# Altium footprint library STM32_F4VX_M.PcbLib: 17 footprints (part 1 of 2)
Each footprint in its own frame and in the unit in brackets; x right, y up, seen from the top. Pads: shape width x height; smd on the part's side, far side on the other; paste and mask are expansions set on the pad; w line width, h text height; cw(c..) or ccw(c..) is an arc to the next point about the centre after c.
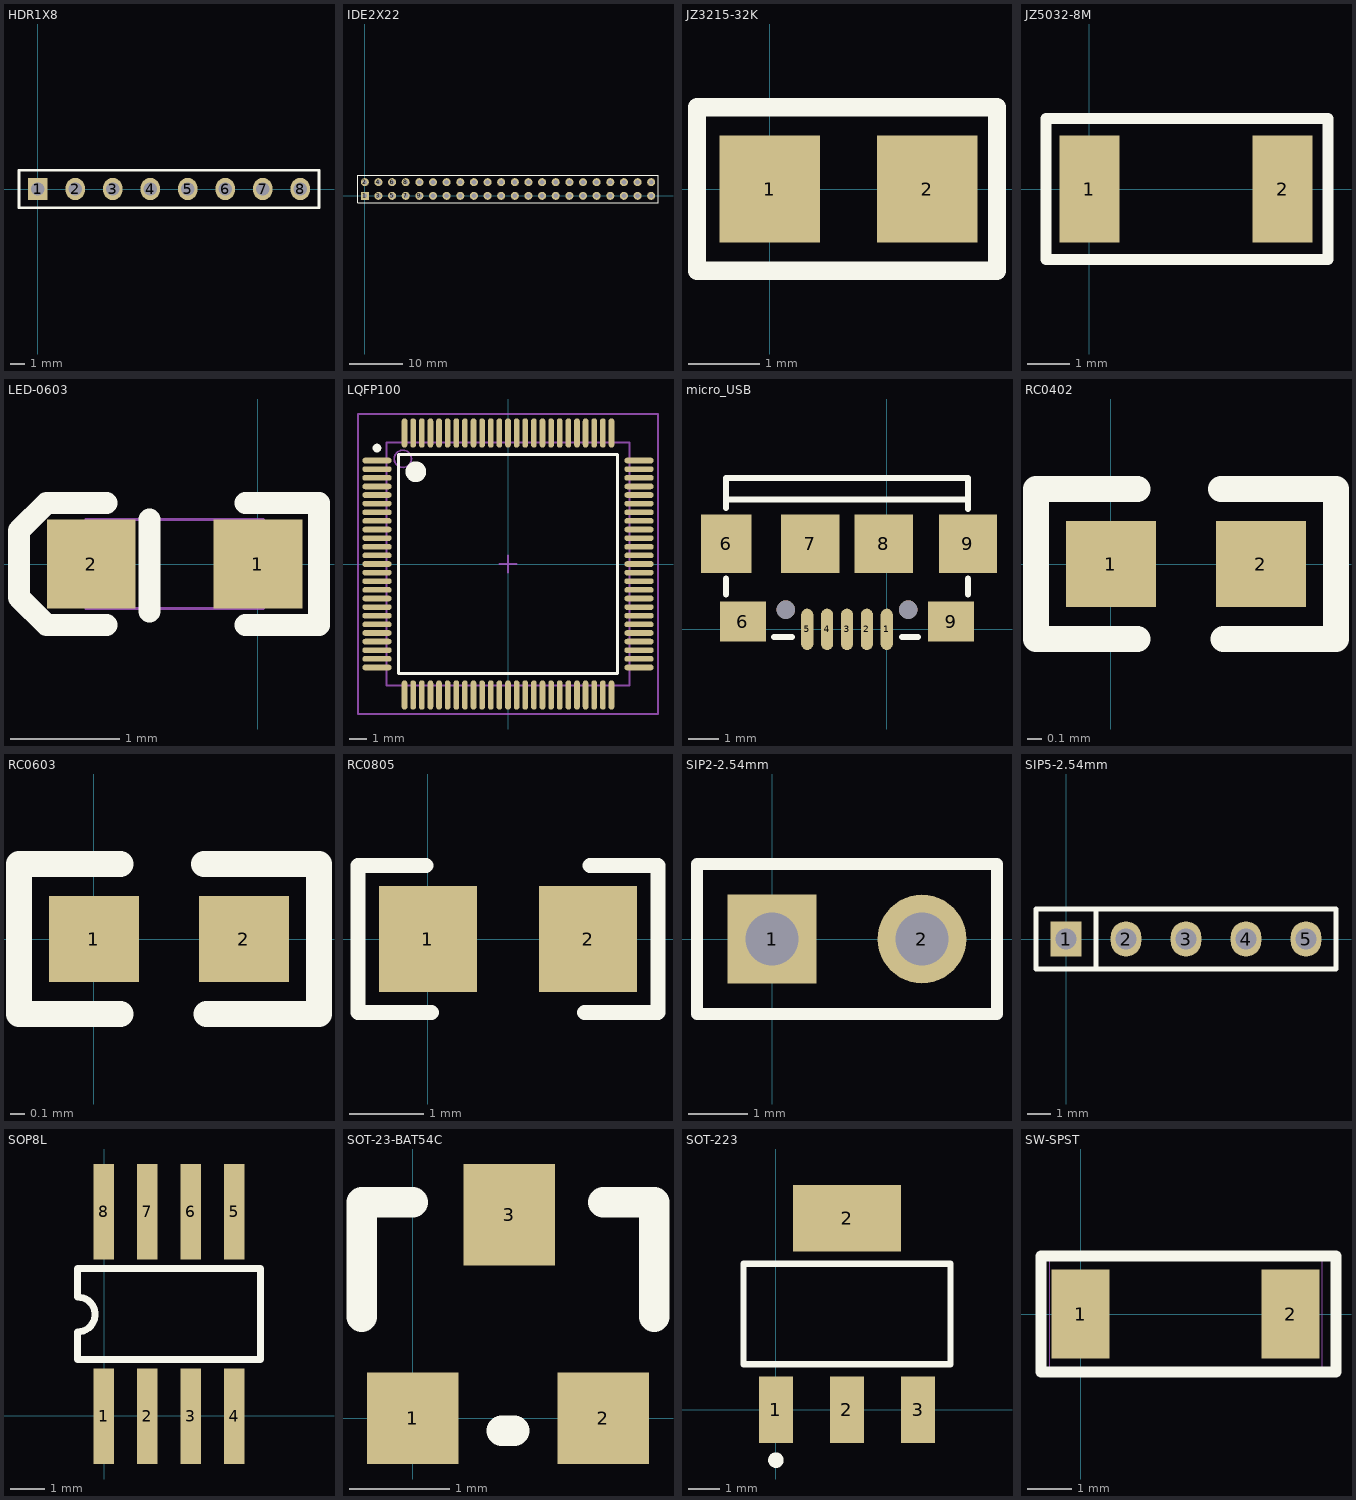
[diagram p0: the footprints below, top view; thin cyan lines are the x and y axes]

## HDR1X8 [mm] "Connector; Header; 8 Position"
pads (8):
  rect 1.3x1.5 hole 0.9: 1(0,0)
  oval 1.3x1.5 hole 0.9: 2(2.54,0) 3(5.08,0) 4(7.62,0) 5(10.16,0) 6(12.7,0) 7(15.24,0) 8(17.78,0)
Top Overlay:
  lines w0.2: -1.27,-1.27 19.05,-1.27 19.05,1.27 -1.27,1.27 -1.27,-1.27

## IDE2X22 [mm]
pads (44):
  rect 1.5x1.5 hole 0.9: 1(0,0)
  round 1.5 hole 0.9: 2(0,2.54) 3(2.54,0) 4(2.54,2.54) 5(5.08,0) 6(5.08,2.54) 7(7.62,0) 8(7.62,2.54) 9(10.16,0) 10(10.16,2.54) 11(12.7,0) 12(12.7,2.54) 13(15.24,0) 14(15.24,2.54) 15(17.78,0) 16(17.78,2.54) 17(20.32,0) 18(20.32,2.54) 19(22.86,0) 20(22.86,2.54) 21(25.4,0) 22(25.4,2.54) 23(27.94,0) 24(27.94,2.54) 25(30.48,0) 26(30.48,2.54) 27(33.02,0) 28(33.02,2.54) 29(35.56,0) 30(35.56,2.54) 31(38.1,0) 32(38.1,2.54) 33(40.64,0) 34(40.64,2.54) 35(43.18,0) 36(43.18,2.54) 37(45.72,0) 38(45.72,2.54) 39(48.26,0) 40(48.26,2.54) 41(50.8,0) 42(50.8,2.54) 43(53.34,0) 44(53.34,2.54)
Top Overlay:
  lines w0.2: -1.27,-1.27 -1.27,3.81 54.61,3.81 54.61,-1.27 -1.27,-1.27

## JZ3215-32K [mm]
pads (2):
  rect 1.4x1.5 smd paste-0.06 mask+0.05: 1(0,0) 2(2.2,0)
Top Overlay:
  lines w0.254: -1.016,-1.143 3.175,-1.143 3.175,1.143 -1.016,1.143 -1.016,-1.143

## JZ5032-8M [mm]
pads (2):
  rect 1.4x2.5 smd: 1(0,0) 2(4.521,0)
Top Overlay:
  lines w0.254: -1.016,-1.651 5.588,-1.651 5.588,1.651 -1.016,1.651 -1.016,-1.651

## LED-0603 [mil]
pads (2):
  rect 32x32 smd paste+0 mask+0: 1(0,0) 2(-60,0)
Top Overlay:
  lines w8: -54.5,-22 -76,-22 -86,-12 -86,12 -76,22 -54.5,22 ; -39,-17 -39,16 ; -4.5,-22 22,-22 22,22 -4.5,22
Mechanical 1:
  lines w1: -39,-16 -39,16 ; -54,-16 -6,-16 -6,16 -54,16 -54,-16
Mechanical 2:
  lines w1: -62,-16 2,-16 2,16 -62,16 -62,-16

## LQFP100 [mm] "LQFP, 100-Leads, Body 16.2x16.2mm (max), Pitch 0.50mm, IPC Medium Density"
height 1.6
pads (100):
  oval 1.7x0.33 smd: 1(-7.6,6) 2(-7.6,5.5) 3(-7.6,5) 4(-7.6,4.5) 5(-7.6,4) 6(-7.6,3.5) 7(-7.6,3) 8(-7.6,2.5) 9(-7.6,2) 10(-7.6,1.5) 11(-7.6,1) 12(-7.6,0.5) 13(-7.6,0) 14(-7.6,-0.5) 15(-7.6,-1) 16(-7.6,-1.5) 17(-7.6,-2) 18(-7.6,-2.5) 19(-7.6,-3) 20(-7.6,-3.5) 21(-7.6,-4) 22(-7.6,-4.5) 23(-7.6,-5) 24(-7.6,-5.5) 25(-7.6,-6) 51(7.6,-6) 52(7.6,-5.5) 53(7.6,-5) 54(7.6,-4.5) 55(7.6,-4) 56(7.6,-3.5) 57(7.6,-3) 58(7.6,-2.5) 59(7.6,-2) 60(7.6,-1.5) 61(7.6,-1) 62(7.6,-0.5) 63(7.6,0) 64(7.6,0.5) 65(7.6,1) 66(7.6,1.5) 67(7.6,2) 68(7.6,2.5) 69(7.6,3) 70(7.6,3.5) 71(7.6,4) 72(7.6,4.5) 73(7.6,5) 74(7.6,5.5) 75(7.6,6)
  oval 0.33x1.7 smd: 26(-6,-7.6) 27(-5.5,-7.6) 28(-5,-7.6) 29(-4.5,-7.6) 30(-4,-7.6) 31(-3.5,-7.6) 32(-3,-7.6) 33(-2.5,-7.6) 34(-2,-7.6) 35(-1.5,-7.6) 36(-1,-7.6) 37(-0.5,-7.6) 38(0,-7.6) 39(0.5,-7.6) 40(1,-7.6) 41(1.5,-7.6) 42(2,-7.6) 43(2.5,-7.6) 44(3,-7.6) 45(3.5,-7.6) 46(4,-7.6) 47(4.5,-7.6) 48(5,-7.6) 49(5.5,-7.6) 50(6,-7.6) 76(6,7.6) 77(5.5,7.6) 78(5,7.6) 79(4.5,7.6) 80(4,7.6) 81(3.5,7.6) 82(3,7.6) 83(2.5,7.6) 84(2,7.6) 85(1.5,7.6) 86(1,7.6) 87(0.5,7.6) 88(0,7.6) 89(-0.5,7.6) 90(-1,7.6) 91(-1.5,7.6) 92(-2,7.6) 93(-2.5,7.6) 94(-3,7.6) 95(-3.5,7.6) 96(-4,7.6) 97(-4.5,7.6) 98(-5,7.6) 99(-5.5,7.6) 100(-6,7.6)
Top Overlay:
  circle w0.6: c-5.35,5.35 r0.3
  circle w0.25: c-7.6,6.725 r0.125
  lines w0.2: -6.35,-6.35 6.35,-6.35 6.35,6.35 -6.35,6.35 -6.35,-6.35
Mechanical 13:
  circle w0.1: c-6.1,6.1 r0.5
  lines w0.1: -7.05,-7.05 7.05,-7.05 7.05,7.05 -7.05,7.05 -7.05,-7.05
Mechanical 15:
  lines w0.1: -0.5,0 0.5,0 ; 0,-0.5 0,0.5 ; -8.7,-8.7 8.7,-8.7 8.7,8.7 -8.7,8.7 -8.7,-8.7
3D body: height 1.6, standoff 0.05, extent -7.05,-7.05 7.05,7.05

## micro_USB [mm]
pads (13):
  oval 0.4x1.35 smd: 1(0,0) 2(-0.65,0) 3(-1.3,0) 4(-1.95,0) 5(-2.6,0)
  rect 1.651x1.9 smd: 6(-5.25,2.794)
  rect 1.5x1.3 smd: 6(-4.699,0.254) 9(2.099,0.254)
  rect 1.9x1.9 smd: 7(-2.5,2.794) 8(-0.1,2.794) 9(2.65,2.794)
  round 0.6 hole 0.6: ""(-3.3,0.644) ""(0.7,0.644)
Top Overlay:
  lines w0.2: -5.25,1.143 -5.25,1.651 ; -5.25,3.963 -5.25,4.944 2.65,4.944 2.65,3.937 ; -5.197,4.244 2.65,4.244 ; -3.683,-0.254 -3.091,-0.254 ; 0.491,-0.254 1.016,-0.254 ; 2.65,1.143 2.65,1.651

## RC0402 [mil]
pads (2):
  rect 24x23 smd paste+0 mask+6: 1(0,0) 2(40,0)
Top Overlay:
  lines w7: 7,-20 -20,-20 -20,20 7,20 ; 29.41,20 60,20 60,-20 30,-20

## RC0603 [mil]
pads (2):
  rect 24x23 smd paste+0 mask+6: 1(0,0) 2(40,0)
Top Overlay:
  lines w7: 7,-20 -20,-20 -20,20 7,20 ; 29.41,20 60,20 60,-20 30,-20

## RC0805 [mil]
pads (2):
  rect 52x56 smd: 1(0,0) 2(85,0)
Top Overlay:
  lines w8: -1,39 -37,39 -37,-39 2,-39 ; 83,-39 122,-39 122,39 86,39

## SIP2-2.54mm [mm]
pads (2):
  rect 1.5x1.5 hole 0.9: 1(0,0)
  round 1.5 hole 0.9: 2(2.54,0)
Top Overlay:
  lines w0.2: -1.27,-1.27 3.81,-1.27 3.81,1.27 -1.27,1.27 -1.27,-1.27

## SIP5-2.54mm [mm]
pads (5):
  rect 1.3x1.5 hole 0.9: 1(0,0)
  oval 1.3x1.5 hole 0.9: 2(2.54,0) 3(5.08,0) 4(7.62,0) 5(10.16,0)
Top Overlay:
  lines w0.2: -1.27,-1.27 -1.27,1.27 11.43,1.27 11.43,-1.27 -1.27,-1.27
  lines w0.203: 1.27,-1.27 1.27,1.27

## SOP8L [mil]
pads (8):
  rect 24x110 smd: 1(-0.41,-0.3) 2(49.59,-0.3) 3(99.59,-0.3) 4(149.59,-0.3) 5(149.59,234.7) 6(99.59,234.7) 7(49.59,234.7) 8(-0.41,234.7)
Top Overlay:
  lines w8: -30.41,64.7 179.59,64.7 179.59,169.7 -30.41,169.7 -30.41,136.7 cw(c-30.41,116.7) -30.41,96.7 -30.41,64.7

## SOT-23-BAT54C [mil]
pads (3):
  rect 36x36 smd: 1(0,0) 2(75,0)
  rect 36x40 smd: 3(38,80)
Top Overlay:
  lines w12: -20,40 -20,85 0,85 ; 35,-5 40,-5 ; 75,85 95,85 95,40

## SOT-223 [mm]
pads (4):
  rect 1.1x2.15 smd: 1(0,0) 2(2.3,0) 3(4.6,0)
  rect 3.5x2.15 smd: 2(2.3,6.2)
Top Overlay:
  circle w0.25: c0,-1.625 r0.125
  lines w0.2: -1.05,1.475 5.65,1.475 5.65,4.725 -1.05,4.725 -1.05,1.475

## SW-SPST [mm]
pads (2):
  rect 1.3x2 smd paste+0 mask+0.2: 1(0,0) 2(4.7,0)
Top Overlay:
  lines w0.254: -0.888,-1.3 5.716,-1.3 5.716,1.3 -0.888,1.3 -0.888,-1.3
Mechanical 1:
  lines w0.025: -0.695,-1.3 5.405,-1.3 5.405,1.3 -0.695,1.3 -0.695,-1.3
Mechanical 2:
  lines w0.003: -0.695,-1.3 5.405,-1.3 5.405,1.3 -0.695,1.3 -0.695,-1.3